# Altium schematic symbol library MiscParts.SchLib: 3 symbols
Pins are listed as number, name and electrical type; pins without a type are passive.

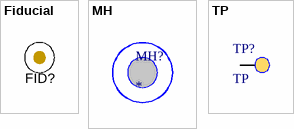
[diagram p0: symbols Fiducial to TP]

## Fiducial
designator FID?  (value not drawn)  (no BOM)
Fiducial mark.  There is nothing to buy or mount.
footprint FID10-20 (Fiducial mark.  There is nothing to buy or mount.)
footprint FID10-20-JLC
footprint FID10-30-JLC (嘉立创标准Mark点)

## MH
designator MH?  (no BOM)
安装孔-附加安装铜柱信息
footprint M2.5
footprint M4
footprint M3

## TP
designator TP?  (no BOM)
测试点
footprint TP1.4mm
pins: 1 TP